# Altium footprint library AudioConnectors.PcbLib: 6 footprints
Each footprint in its own frame and in the unit in brackets; x right, y up, seen from the top. Pads: shape width x height; smd on the part's side, far side on the other; paste and mask are expansions set on the pad; w line width, h text height; cw(c..) or ccw(c..) is an arc to the next point about the centre after c.
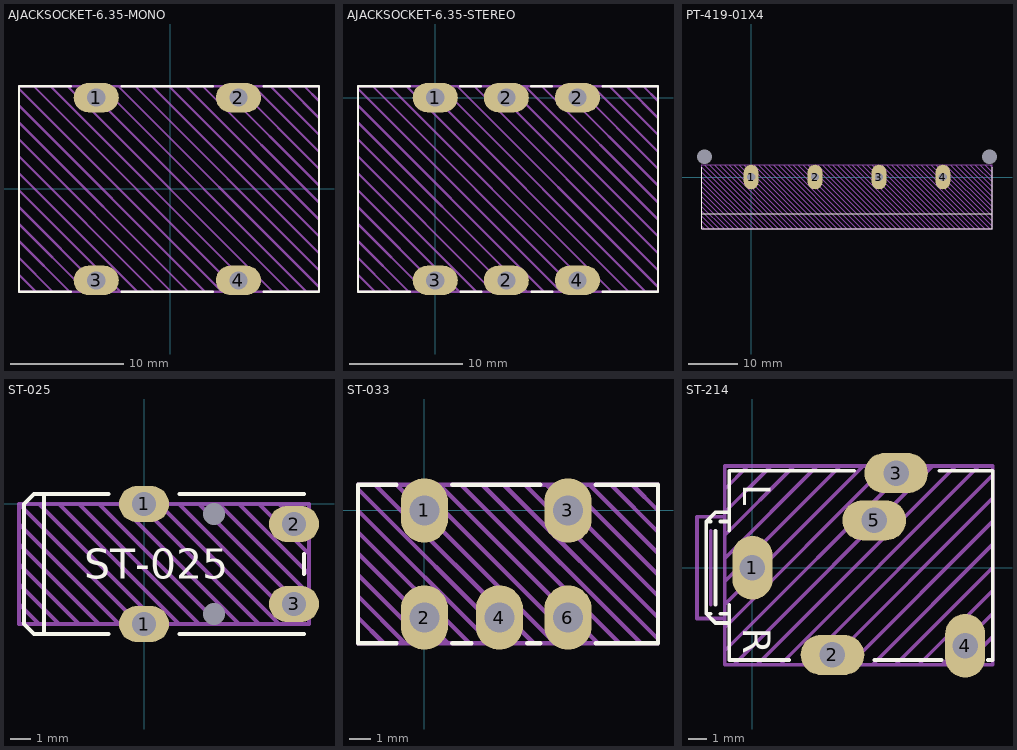
[diagram p0: the footprints below, top view; thin cyan lines are the x and y axes]

## AJACKSOCKET-6.35-MONO [mm] "6.35mm Mono Jack Socket Connector"
pads (4):
  oval 4x2.6 hole 1.6: 1(-6.55,8.1) 2(6.05,8.1) 3(-6.55,-8.1) 4(6.05,-8.1)
Top Overlay:
  lines w0.2: -8.8,-9.1 -13.4,-9.1 -13.4,9.1 -8.8,9.1 ; -4.3,-9.1 3.8,-9.1 ; -4.3,9.1 3.8,9.1 ; 8.3,-9.1 13.2,-9.1 13.2,9.1 8.3,9.1
Top Draw:
  lines w0.2: -13.4,-7.6 -11.9,-9.1 ; -13.4,-6.1 -10.4,-9.1 ; -13.4,-4.6 -8.9,-9.1 ; -13.4,-3.1 -7.4,-9.1 ; -13.4,-1.6 -5.9,-9.1 ; -13.4,-0.1 -4.4,-9.1 ; -13.4,1.4 -2.9,-9.1 ; -13.4,2.9 -1.4,-9.1 ; -13.4,4.4 0.1,-9.1 ; -13.4,5.9 1.6,-9.1 ; -13.4,7.4 3.1,-9.1 ; -13.4,8.9 4.6,-9.1 ; -12.1,9.1 6.1,-9.1 ; -10.6,9.1 7.6,-9.1 ; -9.1,9.1 9.1,-9.1 ; -7.6,9.1 10.6,-9.1 ; -6.1,9.1 12.1,-9.1 ; -4.6,9.1 13.2,-8.7 ; -3.1,9.1 13.2,-7.2 ; -1.6,9.1 13.2,-5.7 ; -0.1,9.1 13.2,-4.2 ; 1.4,9.1 13.2,-2.7 ; 2.9,9.1 13.2,-1.2 ; 4.4,9.1 13.2,0.3 ; 5.9,9.1 13.2,1.8 ; 7.4,9.1 13.2,3.3 ; 8.9,9.1 13.2,4.8 ; 10.4,9.1 13.2,6.3 ; 11.9,9.1 13.2,7.8 ; -13.4,-9.1 13.2,-9.1 13.2,9.1 -13.4,9.1 -13.4,-9.1
3D body "NMJ4HCD2.step": height 15.59, standoff -4, extent -13.38,-9.1 13.15,9.1

## AJACKSOCKET-6.35-STEREO [mm] "6.35mm Mono Jack Socket Connector"
pads (6):
  oval 4x2.6 hole 1.6: 1(0,0) 2(6.3,-16.2) 2(6.3,0) 2(12.6,0) 3(0,-16.2) 4(12.6,-16.2)
Top Overlay:
  lines w0.2: -2.25,-17.2 -6.85,-17.2 -6.85,1 -2.25,1 ; 2.2,1 4.05,1 ; 2.25,-17.2 4.1,-17.2 ; 8.5,1 10.35,1 ; 8.55,-17.2 10.4,-17.2 ; 14.85,-17.2 19.75,-17.2 19.75,1 14.85,1
Top Draw:
  lines w0.2: -6.85,-15.7 -5.35,-17.2 ; -6.85,-14.2 -3.85,-17.2 ; -6.85,-12.7 -2.35,-17.2 ; -6.85,-11.2 -0.85,-17.2 ; -6.85,-9.7 0.65,-17.2 ; -6.85,-8.2 2.15,-17.2 ; -6.85,-6.7 3.65,-17.2 ; -6.85,-5.2 5.15,-17.2 ; -6.85,-3.7 6.65,-17.2 ; -6.85,-2.2 8.15,-17.2 ; -6.85,-0.7 9.65,-17.2 ; -6.85,0.8 11.15,-17.2 ; -5.55,1 12.65,-17.2 ; -4.05,1 14.15,-17.2 ; -2.55,1 15.65,-17.2 ; -1.05,1 17.15,-17.2 ; 0.45,1 18.65,-17.2 ; 1.95,1 19.75,-16.8 ; 3.45,1 19.75,-15.3 ; 4.95,1 19.75,-13.8 ; 6.45,1 19.75,-12.3 ; 7.95,1 19.75,-10.8 ; 9.45,1 19.75,-9.3 ; 10.95,1 19.75,-7.8 ; 12.45,1 19.75,-6.3 ; 13.95,1 19.75,-4.8 ; 15.45,1 19.75,-3.3 ; 16.95,1 19.75,-1.8 ; 18.45,1 19.75,-0.3 ; -6.85,-17.2 -6.85,1 19.75,1 19.75,-17.2 -6.85,-17.2

## PT-419-01X4 [mm]
pads (6):
  oval 3x5 hole 1.7: 1(0,0) 2(13,0) 3(26,0) 4(39,0)
  round 0 hole 3 square: 5(-9.5,4.125) 5(48.5,4.125)
Top Overlay:
  lines w0.254: -10,-7.5 49,-7.5 ; -10,2 -10,-10.5 49,-10.5 49,2
Top Draw:
  lines w0.2: -10,-10 -9.5,-10.5 ; -10,-9 -8.5,-10.5 ; -10,-8 -7.5,-10.5 ; -10,-7 -6.5,-10.5 ; -10,-6 -5.5,-10.5 ; -10,-5 -4.5,-10.5 ; -10,-4 -3.5,-10.5 ; -10,-3 -2.5,-10.5 ; -10,-2 -1.5,-10.5 ; -10,-1 -0.5,-10.5 ; -10,0 0.5,-10.5 ; -10,1 1.5,-10.5 ; -10,2 2.5,-10.5 ; -9.5,2.5 3.5,-10.5 ; -8.5,2.5 4.5,-10.5 ; -7.5,2.5 5.5,-10.5 ; -6.5,2.5 6.5,-10.5 ; -5.5,2.5 7.5,-10.5 ; -4.5,2.5 8.5,-10.5 ; -3.5,2.5 9.5,-10.5 ; -2.5,2.5 10.5,-10.5 ; -1.5,2.5 11.5,-10.5 ; -0.5,2.5 12.5,-10.5 ; 0.5,2.5 13.5,-10.5 ; 1.5,2.5 14.5,-10.5 ; 2.5,2.5 15.5,-10.5 ; 3.5,2.5 16.5,-10.5 ; 4.5,2.5 17.5,-10.5 ; 5.5,2.5 18.5,-10.5 ; 6.5,2.5 19.5,-10.5 ; 7.5,2.5 20.5,-10.5 ; 8.5,2.5 21.5,-10.5 ; 9.5,2.5 22.5,-10.5 ; 10.5,2.5 23.5,-10.5 ; 11.5,2.5 24.5,-10.5 ; 12.5,2.5 25.5,-10.5 ; 13.5,2.5 26.5,-10.5 ; 14.5,2.5 27.5,-10.5 ; 15.5,2.5 28.5,-10.5 ; 16.5,2.5 29.5,-10.5 ; 17.5,2.5 30.5,-10.5 ; 18.5,2.5 31.5,-10.5 ; 19.5,2.5 32.5,-10.5 ; 20.5,2.5 33.5,-10.5 ; 21.5,2.5 34.5,-10.5 ; 22.5,2.5 35.5,-10.5 ; 23.5,2.5 36.5,-10.5 ; 24.5,2.5 37.5,-10.5 ; 25.5,2.5 38.5,-10.5 ; 26.5,2.5 39.5,-10.5 ; 27.5,2.5 40.5,-10.5 ; 28.5,2.5 41.5,-10.5 ; 29.5,2.5 42.5,-10.5 ; 30.5,2.5 43.5,-10.5 ; 31.5,2.5 44.5,-10.5 ; 32.5,2.5 45.5,-10.5 ; 33.5,2.5 46.5,-10.5 ; 34.5,2.5 47.5,-10.5 ; 35.5,2.5 48.5,-10.5 ; 36.5,2.5 49,-10 ; 37.5,2.5 49,-9 ; 38.5,2.5 49,-8 ; 39.5,2.5 49,-7 ; 40.5,2.5 49,-6 ; 41.5,2.5 49,-5 ; 42.5,2.5 49,-4 ; 43.5,2.5 49,-3 ; 44.5,2.5 49,-2 ; 45.5,2.5 49,-1 ; 46.5,2.5 49,0 ; 47.5,2.5 49,1 ; 48.5,2.5 49,2 ; -10,-10.5 -10,2.5 49,2.5 49,-10.5 -10,-10.5
Top Info:
  text "'.Comment'" at 8.878,-14.058 h2.5
3D body: height 5, standoff -2.54, extent 47.5,3 49.5,5
3D body: height 6, standoff 4, extent 47.5,-1 49,5
3D body: height 6, standoff 4, extent -10,-1 -8.5,5
3D body: height 11, standoff 8.5, extent 20.2,-10.077 31.8,-9.727
3D body: height 15, standoff 13, extent 20.2,-10.077 31.8,-9.727
3D body: height 16, standoff 8.5, extent 20.2,-10.077 25,-9.727
3D body: height 7.8, standoff 7.5, extent 20.997,-10.252 30.997,-10.002
3D body: height 6.8, standoff 6.5, extent 20.997,-10.252 30.997,-10.002
3D body: height 5.8, standoff 5.5, extent 20.997,-10.252 30.997,-10.002
3D body: height 16, standoff 14.9, extent 20,-10.502 32,-2.502
3D body: height 11.5, standoff 4, extent 21,-10.002 31,-8.502
3D body: height 15, standoff 3, extent 20,-10.502 20.5,-2.502
3D body: height 15, standoff 3, extent 31.5,-10.502 32,-2.502
3D body: height 9, standoff 8, extent 20,-10.502 32,-9.502
3D body: height 4.8, standoff 4.5, extent 20.997,-10.252 30.997,-10.002
3D body: height 12, standoff 11.7, extent 21,-9.752 31,-5.002
3D body: height 16, standoff 8.5, extent 27,-10.077 31.8,-9.727
3D body: height 16, standoff 8.5, extent 40.003,-10.077 44.803,-9.727
3D body: height 12, standoff 11.7, extent 34.003,-9.752 44.003,-5.002
3D body: height 4.8, standoff 4.5, extent 34,-10.252 44,-10.002
3D body: height 9, standoff 8, extent 33.003,-10.502 45.003,-9.502
3D body: height 15, standoff 3, extent 44.503,-10.502 45.003,-2.502
3D body: height 15, standoff 3, extent 33.003,-10.502 33.503,-2.502
3D body: height 11.5, standoff 4, extent 34.003,-10.002 44.003,-8.502
3D body: height 16, standoff 14.9, extent 33.003,-10.502 45.003,-2.502
3D body: height 5.8, standoff 5.5, extent 34,-10.252 44,-10.002
3D body: height 6.8, standoff 6.5, extent 34,-10.252 44,-10.002
3D body: height 7.8, standoff 7.5, extent 34,-10.252 44,-10.002
3D body: height 16, standoff 8.5, extent 33.203,-10.077 38.003,-9.727
3D body: height 15, standoff 13, extent 33.203,-10.077 44.803,-9.727
3D body: height 11, standoff 8.5, extent 33.203,-10.077 44.803,-9.727
3D body: height 11, standoff 8.5, extent 7.203,-10.075 18.803,-9.725
3D body: height 15, standoff 13, extent 7.203,-10.075 18.803,-9.725
3D body: height 16, standoff 8.5, extent 7.203,-10.075 12.003,-9.725
3D body: height 7.8, standoff 7.5, extent 8,-10.25 18,-10
3D body: height 6.8, standoff 6.5, extent 8,-10.25 18,-10
3D body: height 5.8, standoff 5.5, extent 8,-10.25 18,-10
3D body: height 16, standoff 14.9, extent 7.003,-10.5 19.003,-2.5
3D body: height 11.5, standoff 4, extent 8.003,-10 18.003,-8.5
3D body: height 15, standoff 3, extent 7.003,-10.5 7.503,-2.5
3D body: height 15, standoff 3, extent 18.503,-10.5 19.003,-2.5
3D body: height 9, standoff 8, extent 7.003,-10.5 19.003,-9.5
3D body: height 4.8, standoff 4.5, extent 8,-10.25 18,-10
3D body: height 12, standoff 11.7, extent 8.003,-9.75 18.003,-5
3D body: height 16, standoff 8.5, extent 14.003,-10.075 18.803,-9.725
3D body: height 16, standoff 8.5, extent 1,-10.075 5.8,-9.725
3D body: height 12, standoff 11.7, extent -5,-9.75 5,-5
3D body: height 4.8, standoff 4.5, extent -5.003,-10.25 4.997,-10
3D body: height 9, standoff 8, extent -6,-10.5 6,-9.5
3D body: height 18, standoff 0.7, extent -10,-3 49,-1
3D body: height 15, standoff 3, extent 5.5,-10.5 6,-2.5
3D body: height 15, standoff 3, extent -6,-10.5 -5.5,-2.5
3D body: height 0.72, standoff -1.78, extent -0.602,-0.6 0.598,0.6
3D body: height 0.72, standoff -1.78, extent 12.4,-0.6 13.6,0.6
3D body: height 0.72, standoff -1.78, extent 25.4,-0.6 26.6,0.6
3D body: height 0.72, standoff -1.78, extent 38.4,-0.6 39.6,0.6
3D body: height 2, standoff 0.5, extent -10,-7.5 49,2.5
3D body: height 11.5, standoff 4, extent -5,-10 5,-8.5
3D body: height 16, standoff 14.9, extent -6,-10.5 6,-2.5
3D body: height 5.8, standoff 5.5, extent -5.003,-10.25 4.997,-10
3D body: height 6.8, standoff 6.5, extent -5.003,-10.25 4.997,-10
3D body: height 7.8, standoff 7.5, extent -5.003,-10.25 4.997,-10
3D body: height 16, standoff 8.5, extent -5.8,-10.075 -1,-9.725
3D body: height 15, standoff 13, extent -5.8,-10.075 5.8,-9.725
3D body: height 11, standoff 8.5, extent -5.8,-10.075 5.8,-9.725
3D body: height 5, standoff -2.54, extent -10.5,3 -8.5,5

## ST-025 [mm]
pads (6):
  oval 2.5x1.8 hole 1.2: 1(0,-6) 1(0,0) 2(7.5,-1) 3(7.5,-5)
  round 0 hole 1.1: 4(3.5,-0.5) 5(3.5,-5.5)
Top Overlay:
  lines w0.2: -5,-6.5 -5,0.5 ; -1.778,-6.5 -2,-6.5 -5.5,-6.5 ; -1.778,0.5 -5.5,0.5 -6,0 ; 1.778,-6.5 8,-6.5 ; 1.778,0.508 8,0.5 ; 8,-3.5 8,-2.5 ; -6,0 -6,-6 -5.5,-6.5 ; -6,0 -6,0 ; -5.5,-6.5 -5.5,-6.5
  text "ST-025" at -3,-3.75 h1.5
Top Draw:
  lines w0.2: -6.25,-5 -5.25,-6 -5,-6 ; -6.25,-4 -4.25,-6 -4,-6 ; -6.25,-3 -3.25,-6 -3,-6 ; -6.25,-2 -2.25,-6 ; -6.25,-1 -1.25,-6 -1,-6 ; -5.25,0 0.75,-6 1,-6 ; -4.25,0 1.75,-6 ; -3.25,0 2.75,-6 ; -2.25,0 3.75,-6 ; -1.25,0 4.75,-6 5,-6 ; -0.25,0 5.75,-6 7,-6 ; 0,-6 -0.25,-6 -6.25,0 ; 0.75,0 6.75,-6 ; 1.75,0 7.75,-6 ; 2.75,0 8.25,-5.5 ; 3.75,0 8.25,-4.5 ; 4.75,0 8.25,-3.5 8.25,-4.5 ; 5.75,0 8.25,-2.5 8.25,-3 ; 6.75,0 8.25,-1.5 8.25,-2 ; 7.75,0 8.25,-0.5 ; 8.25,-5 8.25,-4.5 ; -6.25,0 8.25,0 8.25,-6 -6.25,-6 -6.25,0
Top Info:
  text "'.Comment'" at -5.588,-8.128 h1
3D body: height 5.1, standoff 0, extent -2,0 0.5,0.25
3D body: height 0.25, standoff -2, extent 7,-1.25 8,-0.75
3D body: height 0.25, standoff -2, extent 7,-5.25 8,-4.75
3D body: height 0.25, standoff -2, extent -0.5,-6.25 0.5,-5.75
3D body: height 0.25, standoff -2, extent -0.5,-0.25 0.5,0.25
3D body: height 5, standoff 0, extent -4,-6 8.25,0
3D body: height 5, standoff 0.2, extent -6.5,-5.4 -3.5,-0.6
3D body: height 5.1, standoff 0, extent -2,-6.25 0.5,-6
3D body: height 5.1, standoff 5, extent -2,-6.25 3.5,0.25

## ST-033 [mm]
pads (5):
  oval 2.2x3 hole 1.4: 1(0,0) 2(0,-5) 3(6.7,0) 4(3.5,-5) 6(6.7,-5)
Top Overlay:
  lines w0.2: -1.3,-6.2 -3.1,-6.2 -3.1,1.2 -1.3,1.2 ; 1.3,-6.2 2.2,-6.2 ; 1.3,1.2 5.4,1.2 ; 4.8,-6.2 5.4,-6.2 ; 8,-6.2 10.9,-6.2 10.9,1.2 8,1.2
Top Draw:
  lines w0.2: -3.1,-5 -1.9,-6.2 ; -3.1,-4 -0.9,-6.2 ; -3.1,-3 0.1,-6.2 ; -3.1,-2 1.1,-6.2 ; -3.1,-1 2.1,-6.2 ; -3.1,0 3.1,-6.2 ; -3.1,1 4.1,-6.2 ; -2.3,1.2 5.1,-6.2 ; -1.3,1.2 6.1,-6.2 ; -0.3,1.2 7.1,-6.2 ; 0.7,1.2 8.1,-6.2 ; 1.7,1.2 9.1,-6.2 ; 2.7,1.2 10.1,-6.2 ; 3.7,1.2 10.9,-6 ; 4.7,1.2 10.9,-5 ; 5.7,1.2 10.9,-4 ; 6.7,1.2 10.9,-3 ; 7.7,1.2 10.9,-2 ; 8.7,1.2 10.9,-1 ; 9.7,1.2 10.9,0 ; -3.1,-6.2 -3.1,1.2 10.9,1.2 10.9,-6.2 -3.1,-6.2

## ST-214 [mm]
pads (5):
  oval 2.2x3.5 hole 1.4: 1(0,0) 4(11.7,-4.3)
  oval 3.5x2.2 hole 1.4: 2(4.4,-4.8) 3(7.9,5.2) 5(6.7,2.6)
Top Overlay:
  lines w0.2: -2.286,-2.54 -2.54,-2.54 ; -2.286,2.54 -2.54,2.54 ; -2.032,-2.032 -2.032,2.032 ; -1.778,-2.54 -1.27,-2.54 ; -1.778,2.54 -1.27,2.54 ; -1.27,-3.048 -2.032,-3.048 -2.54,-2.54 ; -1.27,-2.032 -1.27,-2.286 -1.27,-5.08 0.762,-5.08 2.032,-5.08 ; -1.27,2.032 -1.27,2.54 ; -1.27,3.048 -2.032,3.048 -2.54,2.54 ; 5.588,5.334 4.318,5.334 -1.27,5.334 -1.27,2.54 ; 6.7,-5.08 10.414,-5.08 ; 10.287,5.334 13.208,5.334 13.208,-5.08 12.954,-5.08 ; -2.54,-2.54 -2.54,2.54
  text "R" at -0.508,-3.302 h1.52
  text "L" at -0.508,4.572 h1.52
Top Draw:
  lines w0.2: -2.286,-2.032 -2.286,2.032 ; -1.524,-4.572 8.636,5.588 7.366,5.588 -1.524,-3.302 -1.524,-2.032 6.096,5.588 4.826,5.588 -1.524,-0.762 -1.524,0.508 3.556,5.588 2.286,5.588 -1.524,1.778 -1.524,3.048 1.016,5.588 -0.254,5.588 -1.524,4.318 ; -1.524,-2.794 -3.048,-2.794 -3.048,2.794 -1.524,2.794 ; -1.016,-5.334 9.906,5.588 11.176,5.588 0.254,-5.334 1.524,-5.334 12.446,5.588 ; 2.794,-5.334 13.208,5.08 ; 4.064,-5.334 13.208,3.81 13.208,2.54 5.334,-5.334 ; 6.604,-5.334 13.208,1.27 13.208,0 7.874,-5.334 9.144,-5.334 13.208,-1.27 13.208,-2.54 10.414,-5.334 ; 11.684,-5.334 13.208,-3.81 ; -1.524,-5.334 13.208,-5.334 13.208,5.588 -1.524,5.588 -1.524,-5.334
Top Info:
  text "'.Comment'" at -1.27,-7.366 h1.25
3D body: height 6, standoff 0.2, extent -5,-2.9 -1.5,2.9
3D body: height 1.3, standoff 0, extent -1.524,-1.8 12.476,1.8
3D body: height 6, standoff 0, extent -1.524,-5.334 13.208,-1.8
3D body: height 4.8, standoff 1.2, extent -1.524,-1.8 12.476,1.8
3D body: height 0.03, standoff -1.78, extent 7.138,4.946 8.662,5.454
3D body: height 0.03, standoff -1.78, extent 3.638,-5.054 5.162,-4.546
3D body: height 0.03, standoff -1.78, extent -0.254,-0.762 0.254,0.762
3D body: height 6.15, standoff 5.95, extent -1.524,-5.334 13.208,5.588
3D body: height 6, standoff 0, extent -1.524,1.8 13.208,5.588
3D body: height 6, standoff 0, extent 12.4,-1.8 13.208,1.8
3D body: height 6, standoff 5.1, extent -1.524,-1.8 12.476,1.811